# Altium footprint library SparkFun-Switches.PCBLIB: 50 footprints (part 1 of 5)
Each footprint in its own frame and in the unit in brackets; x right, y up, seen from the top. Pads: shape width x height; smd on the part's side, far side on the other; paste and mask are expansions set on the pad; w line width, h text height; cw(c..) or ccw(c..) is an arc to the next point about the centre after c.
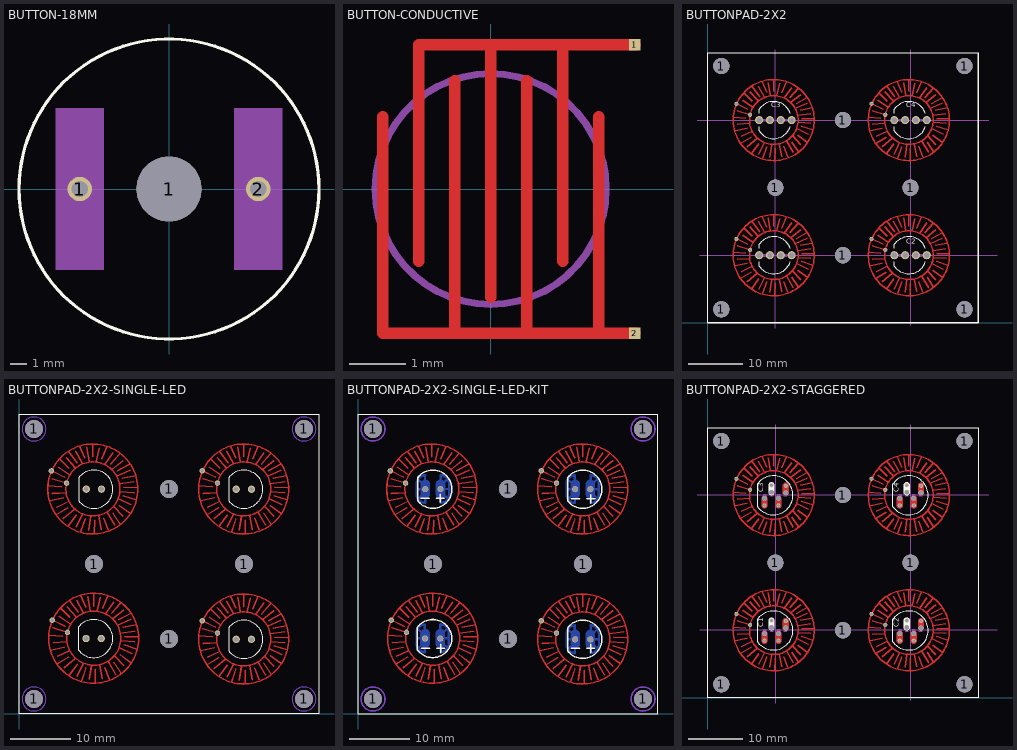
[diagram p0: the footprints below, top view; thin cyan lines are the x and y axes]

## BUTTON-18MM [mm]
pads (3):
  round 1.5 hole 1: 1(-5.5,0) 2(5.5,0)
  round 4 hole 4: 1(0,0)
Top Overlay:
  circle w0.203: c0,0 r9.25
Mechanical 11:
  rectangle: 5,-3.75 6,3.75
  rectangle: -6,-3.75 -5,3.75
Mechanical 18:
  rectangle: 4,-5 7,5
  rectangle: -7,-5 -4,5

## BUTTON-CONDUCTIVE [mil]
pads (2):
  rect 8x8 smd: 1(100,100) 2(100,-100)
Top Layer:
  lines w8: -75,50 -75,-100 100,-100 ; -50,-50 -50,100 100,100 ; -25,-100 -25,75 ; 0,-75 0,100 ; 25,-100 25,75 ; 50,-50 50,100 ; 75,-100 75,50
Top Solder:
  circle w78.74: c0,0 r39.37
Mechanical 16:
  circle w5: c0,0 r80

## BUTTONPAD-2X2 [mm]
pads (32):
  round 3 hole 3: 1(2.5,2.5) 1(2.5,47.5) 1(12.5,25) 1(25,12.5) 1(25,37.5) 1(37.5,25) 1(47.5,2.5) 1(47.5,47.5)
  round 1.5 hole 1: BLU1(13.5,12.5) BLU2(38.5,12.5) BLU3(13.5,37.5) BLU4(38.5,37.5) GND1(11.5,12.5) GND2(36.5,12.5) GND3(11.5,37.5) GND4(36.5,37.5) GRN1(15.5,12.5) GRN2(40.5,12.5) GRN3(15.5,37.5) GRN4(40.5,37.5) RED1(9.5,12.5) RED2(34.5,12.5) RED3(9.5,37.5) RED4(34.5,37.5)
  round 0.762 hole 0.508: SIG1(5.288,15.513) SIG2(7.828,13.481) SIG3(30.288,15.513) SIG4(32.828,13.481) SIG5(5.288,40.513) SIG6(7.828,38.481) SIG7(30.288,40.513) SIG8(32.828,38.481)
Top Layer:
  circle w0.254: c37.21,12.51 r4.5
  circle w0.254: c37.2,12.5 r7.5
  circle w0.254: c12.21,12.51 r4.5
  circle w0.254: c12.2,12.5 r7.5
  circle w0.254: c37.21,37.51 r4.5
  circle w0.254: c37.2,37.5 r7.5
  circle w0.254: c12.21,37.51 r4.5
  circle w0.254: c12.2,37.5 r7.5
  lines w0.254: 4.72,13.01 7.02,12.87 ; 4.72,38.01 7.02,37.87 ; 5.04,10.52 7.31,11.03 ; 5.04,35.52 7.31,36.03 ; 5.36,15.54 7.42,14.5 ; 5.36,40.54 7.42,39.5 ; 5.41,14.24 7.74,13.5 ; 5.41,39.24 7.74,38.5 ; 5.44,11.75 7.74,11.89 ; 5.44,36.75 7.74,36.89 ; 6.13,8.25 8.03,9.37 ; 6.13,33.25 8.03,34.37 ; 6.19,9.48 8.19,10.42 ; 6.19,34.48 8.19,35.42 ; 6.43,16.16 8.35,14.88 ; 6.43,41.16 8.35,39.88 ; 6.7,17.5 8.2,16 ; 6.7,42.5 8.2,41 ; 7.28,7.58 9.13,9.13 ; 7.28,32.58 9.13,34.13 ; 7.76,17.74 9.29,16.05 ; 7.76,42.74 9.29,41.05 ; 8.11,6.33 9.44,8.13 ; 8.11,31.33 9.44,33.13 ; 8.19,18.7 9.61,16.86 ; 8.19,43.7 9.61,41.86 ; 9.35,18.78 10.46,16.8 ; 9.35,43.78 10.46,41.8 ; 9.47,6.19 10.46,8.28 ; 9.47,31.19 10.46,33.28 ; 10.04,19.61 10.88,17.68 ; 10.04,44.61 10.88,42.68 ; 10.17,5.42 10.91,7.55 ; 10.17,30.42 10.91,32.55 ; 11.21,19.45 11.59,17.07 ; 11.21,44.45 11.59,42.07 ; 11.49,5.66 11.83,7.93 ; 11.49,30.66 11.83,32.93 ; 12.2,17.87 12.2,19.96 ; 12.2,42.87 12.2,44.96 ; 12.42,5.06 12.49,7.29 ; 12.42,30.06 12.49,32.29 ; 12.79,17.12 13.3,19.29 ; 12.79,42.12 13.3,44.29 ; 13.19,8.04 13.64,5.74 ; 13.19,33.04 13.64,30.74 ; 13.7,17.52 14.53,19.53 ; 13.7,42.52 14.53,44.53 ; 14.05,7.62 14.79,5.69 ; 14.05,32.62 14.79,30.69 ; 14.18,16.59 15.54,18.51 ; 14.18,41.59 15.54,43.51 ; 14.61,8.6 15.83,6.51 ; 14.61,33.6 15.83,31.51 ; 15.17,16.64 16.72,18.41 ; 15.17,41.64 16.72,43.41 ; 15.38,15.76 17.21,17.2 ; 15.38,40.76 17.21,42.2 ; 15.57,8.44 16.74,6.7 ; 15.57,33.44 16.74,31.7 ; 15.7,9.56 17.21,7.98 ; 15.7,34.56 17.21,32.98 ; 16.18,14.66 18.4,15.65 ; 16.18,39.66 18.4,40.65 ; 16.34,15.55 18.35,16.62 ; 16.34,40.55 18.35,41.62 ; 16.5,10.9 18.56,9.88 ; 16.5,35.9 18.56,34.88 ; 16.61,13.36 19.01,13.68 ; 16.61,38.36 19.01,38.68 ; 16.64,9.72 18.37,8.44 ; 16.64,34.72 18.37,33.44 ; 16.8,12.07 19.07,11.91 ; 16.8,37.07 19.07,36.91 ; 17.09,14.32 19.31,14.74 ; 17.09,39.32 19.31,39.74 ; 17.25,11.38 19.42,10.68 ; 17.25,36.38 19.42,35.68 ; 17.38,12.77 19.58,12.74 ; 17.38,37.77 19.58,37.74 ; 29.72,13.01 32.02,12.87 ; 29.72,38.01 32.02,37.87 ; 30.04,10.52 32.31,11.03 ; 30.04,35.52 32.31,36.03 ; 30.36,15.54 32.42,14.5 ; 30.36,40.54 32.42,39.5 ; 30.41,14.24 32.74,13.5 ; 30.41,39.24 32.74,38.5 ; 30.44,11.75 32.74,11.89 ; 30.44,36.75 32.74,36.89 ; 31.13,8.25 33.03,9.37 ; 31.13,33.25 33.03,34.37 ; 31.19,9.48 33.19,10.42 ; 31.19,34.48 33.19,35.42 ; 31.43,16.16 33.35,14.88 ; 31.43,41.16 33.35,39.88 ; 31.7,17.5 33.2,16 ; 31.7,42.5 33.2,41 ; 32.28,7.58 34.13,9.13 ; 32.28,32.58 34.13,34.13 ; 32.76,17.74 34.29,16.05 ; 32.76,42.74 34.29,41.05 ; 33.11,6.33 34.44,8.13 ; 33.11,31.33 34.44,33.13 ; 33.19,18.7 34.61,16.86 ; 33.19,43.7 34.61,41.86 ; 34.35,18.78 35.46,16.8 ; 34.35,43.78 35.46,41.8 ; 34.47,6.19 35.46,8.28 ; 34.47,31.19 35.46,33.28 ; 35.04,19.61 35.88,17.68 ; 35.04,44.61 35.88,42.68 ; 35.17,5.42 35.91,7.55 ; 35.17,30.42 35.91,32.55 ; 36.21,19.45 36.59,17.07 ; 36.21,44.45 36.59,42.07 ; 36.49,5.66 36.83,7.93 ; 36.49,30.66 36.83,32.93 ; 37.2,17.87 37.2,19.96 ; 37.2,42.87 37.2,44.96 ; 37.42,5.06 37.49,7.29 ; 37.42,30.06 37.49,32.29 ; 37.79,17.12 38.3,19.29 ; 37.79,42.12 38.3,44.29 ; 38.19,8.04 38.64,5.74 ; 38.19,33.04 38.64,30.74 ; 38.7,17.52 39.53,19.53 ; 38.7,42.52 39.53,44.53 ; 39.05,7.62 39.79,5.69 ; 39.05,32.62 39.79,30.69 ; 39.18,16.59 40.54,18.51 ; 39.18,41.59 40.54,43.51 ; 39.61,8.6 40.83,6.51 ; 39.61,33.6 40.83,31.51 ; 40.17,16.64 41.72,18.41 ; 40.17,41.64 41.72,43.41 ; 40.38,15.76 42.21,17.2 ; 40.38,40.76 42.21,42.2 ; 40.57,8.44 41.74,6.7 ; 40.57,33.44 41.74,31.7 ; 40.7,9.56 42.21,7.98 ; 40.7,34.56 42.21,32.98 ; 41.18,14.66 43.4,15.65 ; 41.18,39.66 43.4,40.65 ; 41.34,15.55 43.35,16.62 ; 41.34,40.55 43.35,41.62 ; 41.5,10.9 43.56,9.88 ; 41.5,35.9 43.56,34.88 ; 41.61,13.36 44.01,13.68 ; 41.61,38.36 44.01,38.68 ; 41.64,9.72 43.37,8.44 ; 41.64,34.72 43.37,33.44 ; 41.8,12.07 44.07,11.91 ; 41.8,37.07 44.07,36.91 ; 42.09,14.32 44.31,14.74 ; 42.09,39.32 44.31,39.74 ; 42.25,11.38 44.42,10.68 ; 42.25,36.38 44.42,35.68 ; 42.38,12.77 44.58,12.74 ; 42.38,37.77 44.58,37.74
Top Overlay:
  lines w0.203: 0,0 0,50 50,50 ; 9.5,11.25 9.5,10.5 ccw(c12.188,12.312) 15.25,11.25 ; 9.5,13.75 9.5,14.5 cw(c12.187,12.688) 15.25,13.75 ; 9.5,36.25 9.5,35.5 ccw(c12.187,37.313) 15.25,36.25 ; 9.5,38.75 9.5,39.5 cw(c12.187,37.688) 15.25,38.75 ; 34.5,11.25 34.5,10.5 ccw(c37.188,12.313) 40.25,11.25 ; 34.5,13.75 34.5,14.5 cw(c37.188,12.688) 40.25,13.75 ; 34.5,36.25 34.5,35.5 ccw(c37.188,37.313) 40.25,36.25 ; 34.5,38.75 34.5,39.5 cw(c37.188,37.688) 40.25,38.75
  lines w0.254: 0,0 50,0 50,50
  text "C2" at 36.75,14.25 h1.57
  text "C4" at 36.75,39.5 h1.57
  text "C3" at 11.75,39.5 h1.57
Top Solder:
  drawing of 168 lines, arcs and shapes, not listed
Mechanical 16:
  rectangle: 39.014,12.174 39.675,12.708
  rectangle: 35.255,12.174 35.916,12.708
  rectangle: 36.507,12.174 37.168,12.708
  rectangle: 37.762,12.174 38.423,12.708
  rectangle: 13.995,12.174 14.656,12.708
  rectangle: 10.236,12.174 10.897,12.708
  rectangle: 11.488,12.174 12.149,12.708
  rectangle: 12.743,12.174 13.404,12.708
  rectangle: 39.014,37.193 39.675,37.727
  rectangle: 35.255,37.193 35.916,37.727
  rectangle: 36.507,37.193 37.168,37.727
  rectangle: 37.762,37.193 38.423,37.727
  rectangle: 13.995,37.193 14.656,37.727
  rectangle: 10.236,37.193 10.897,37.727
  rectangle: 11.488,37.193 12.149,37.727
  rectangle: 12.743,37.193 13.404,37.727
  lines w0.127: -2,37.5 52,37.5 ; -1.5,12.5 53.5,12.5 ; 12.5,-1 12.5,50.5 ; 37.5,-0.5 37.5,50.5

## BUTTONPAD-2X2-SINGLE-LED [mil]
pads (24):
  round 118.11 hole 118.11: 1(98.43,98.43) 1(98.43,1870.08) 1(492.13,984.25) 1(984.25,492.13) 1(984.25,1476.38) 1(1476.38,984.25) 1(1870.08,98.43) 1(1870.08,1870.08)
  round 48 hole 32: A1(540,495) A2(1525,490) A3(541.34,1475.2) A4(1525,1475) K1(440,495) K2(1425,490) K3(441.34,1475.2) K4(1425,1475)
  round 35.43 hole 23.62: SIG1(218.19,615.75) SIG2(318.19,535.75) SIG3(1202.44,610.75) SIG4(1302.44,530.75) SIG5(212.13,1595) SIG6(312.13,1515) SIG7(1202.44,1595) SIG8(1302.44,1515)
Top Layer:
  circle w10: c484.25,1476.38 r295.28
  circle w10: c484.65,1476.77 r177.17
  circle w10: c1474.57,1476.38 r295.28
  circle w10: c1474.96,1476.77 r177.17
  circle w10: c490.32,497.13 r295.28
  circle w10: c490.71,497.52 r177.17
  circle w10: c1474.57,492.13 r295.28
  circle w10: c1474.96,492.52 r177.17
  lines w10: 189.76,1496.46 280.32,1490.94 ; 195.83,517.2 286.38,511.69 ; 202.36,1398.43 291.73,1418.5 ; 208.43,419.17 297.8,439.25 ; 214.96,1596.06 296.06,1555.12 ; 216.93,1544.88 308.66,1515.75 ; 218.11,1446.85 308.66,1452.36 ; 221.02,616.81 302.13,575.87 ; 222.99,565.63 314.72,536.5 ; 224.17,467.6 314.72,473.11 ; 245.28,1309.06 320.08,1353.15 ; 247.64,1357.48 326.38,1394.49 ; 251.34,329.8 326.14,373.9 ; 253.7,378.23 332.44,415.24 ; 257.09,1620.47 332.68,1570.08 ; 263.15,641.22 338.74,590.83 ; 267.72,1673.23 326.77,1614.17 ; 273.78,693.98 332.83,634.92 ; 290.55,1282.68 363.39,1343.7 ; 296.61,303.43 369.45,364.45 ; 309.45,1682.68 369.69,1616.14 ; 315.51,703.43 375.75,636.89 ; 323.23,1233.46 375.59,1304.33 ; 326.38,1720.47 382.28,1648.03 ; 329.29,254.21 381.65,325.08 ; 332.44,741.22 388.35,668.78 ; 372.05,1723.62 415.75,1645.67 ; 376.77,1227.95 415.75,1310.24 ; 378.11,744.37 421.81,666.42 ; 382.83,248.7 421.81,330.98 ; 399.21,1756.3 432.28,1680.32 ; 404.33,1197.64 433.46,1281.5 ; 405.28,777.05 438.35,701.06 ; 410.39,218.39 439.53,302.24 ; 445.28,1750 460.24,1656.3 ; 451.34,770.75 466.3,677.05 ; 456.3,1207.09 469.69,1296.46 ; 462.36,227.83 475.75,317.2 ; 484.25,1687.8 484.25,1770.08 ; 490.32,708.54 490.32,790.83 ; 492.91,1183.46 495.67,1271.26 ; 498.98,204.21 501.73,292.01 ; 507.48,1658.27 527.56,1743.7 ; 513.54,679.02 533.62,764.45 ; 523.23,1300.79 540.94,1210.24 ; 529.29,321.54 547.01,230.98 ; 543.31,1674.02 575.98,1753.15 ; 549.37,694.76 582.05,773.9 ; 557.09,1284.25 586.22,1208.27 ; 562.2,1637.4 615.75,1712.99 ; 563.15,305 592.28,229.02 ; 568.27,658.15 621.81,733.74 ; 579.13,1322.83 627.17,1240.55 ; 585.2,343.58 633.23,261.3 ; 601.18,1639.37 662.2,1709.06 ; 607.24,660.12 668.27,729.8 ; 609.45,1604.72 681.5,1661.42 ; 615.51,625.47 687.56,682.17 ; 616.93,1316.54 662.99,1248.03 ; 622.05,1360.63 681.5,1298.43 ; 622.99,337.28 669.06,268.78 ; 628.11,381.38 687.56,319.17 ; 640.94,1561.42 728.35,1600.39 ; 647.01,582.17 734.41,621.14 ; 647.24,1596.46 726.38,1638.58 ; 653.31,617.2 732.44,659.33 ; 653.54,1413.39 734.65,1373.23 ; 657.87,1510.24 752.36,1522.83 ; 659.06,1366.93 727.17,1316.54 ; 659.61,434.13 740.71,393.98 ; 663.94,530.98 758.43,543.58 ; 665.12,387.68 733.23,337.28 ; 665.35,1459.45 754.72,1453.15 ; 671.42,480.2 760.79,473.9 ; 676.77,1548.03 764.17,1564.57 ; 682.83,568.78 770.24,585.32 ; 683.07,1432.28 768.5,1404.72 ; 688.19,1487.01 774.8,1485.83 ; 689.13,453.03 774.57,425.47 ; 694.25,507.76 780.87,506.57 ; 1180.08,512.2 1270.63,506.69 ; 1180.08,1496.46 1270.63,1490.94 ; 1192.68,414.17 1282.05,434.25 ; 1192.68,1398.43 1282.05,1418.5 ; 1205.28,611.81 1286.38,570.87 ; 1205.28,1596.06 1286.38,1555.12 ; 1207.24,560.63 1298.98,531.5 ; 1207.24,1544.88 1298.98,1515.75 ; 1208.43,462.6 1298.98,468.11 ; 1208.43,1446.85 1298.98,1452.36 ; 1235.59,324.8 1310.39,368.9 ; 1235.59,1309.06 1310.39,1353.15 ; 1237.95,373.23 1316.69,410.24 ; 1237.95,1357.48 1316.69,1394.49 ; 1247.4,636.22 1322.99,585.83 ; 1247.4,1620.47 1322.99,1570.08 ; 1258.03,688.98 1317.09,629.92 ; 1258.03,1673.23 1317.09,1614.17 ; 1280.87,298.43 1353.7,359.45 ; 1280.87,1282.68 1353.7,1343.7 ; 1299.76,698.43 1360,631.89 ; 1299.76,1682.68 1360,1616.14 ; 1313.54,249.21 1365.91,320.08 ; 1313.54,1233.46 1365.91,1304.33 ; 1316.69,736.22 1372.6,663.78 ; 1316.69,1720.47 1372.6,1648.03 ; 1362.36,739.37 1406.06,661.42 ; 1362.36,1723.62 1406.06,1645.67 ; 1367.09,243.7 1406.06,325.98 ; 1367.09,1227.95 1406.06,1310.24 ; 1389.53,772.05 1422.6,696.06 ; 1389.53,1756.3 1422.6,1680.32 ; 1394.65,213.39 1423.78,297.24 ; 1394.65,1197.64 1423.78,1281.5 ; 1435.59,765.75 1450.55,672.05 ; 1435.59,1750 1450.55,1656.3 ; 1446.61,222.83 1460,312.2 ; 1446.61,1207.09 1460,1296.46 ; 1474.57,703.54 1474.57,785.83 ; 1474.57,1687.8 1474.57,1770.08 ; 1483.23,199.21 1485.98,287.01 ; 1483.23,1183.46 1485.98,1271.26 ; 1497.8,674.02 1517.87,759.45 ; 1497.8,1658.27 1517.87,1743.7 ; 1513.54,316.54 1531.26,225.98 ; 1513.54,1300.79 1531.26,1210.24 ; 1533.62,689.76 1566.3,768.9 ; 1533.62,1674.02 1566.3,1753.15 ; 1547.4,300 1576.54,224.02 ; 1547.4,1284.25 1576.54,1208.27 ; 1552.52,653.15 1606.06,728.74 ; 1552.52,1637.4 1606.06,1712.99 ; 1569.45,338.58 1617.48,256.3 ; 1569.45,1322.83 1617.48,1240.55 ; 1591.5,655.12 1652.52,724.8 ; 1591.5,1639.37 1652.52,1709.06 ; 1599.76,620.47 1671.81,677.17 ; 1599.76,1604.72 1671.81,1661.42 ; 1607.24,332.28 1653.31,263.78 ; 1607.24,1316.54 1653.31,1248.03 ; 1612.36,376.38 1671.81,314.17 ; 1612.36,1360.63 1671.81,1298.43 ; 1631.26,577.17 1718.66,616.14 ; 1631.26,1561.42 1718.66,1600.39 ; 1637.56,612.2 1716.69,654.33 ; 1637.56,1596.46 1716.69,1638.58 ; 1643.86,429.13 1724.96,388.98 ; 1643.86,1413.39 1724.96,1373.23 ; 1648.19,525.98 1742.68,538.58 ; 1648.19,1510.24 1742.68,1522.83 ; 1649.37,382.68 1717.48,332.28 ; 1649.37,1366.93 1717.48,1316.54 ; 1655.67,475.2 1745.04,468.9 ; 1655.67,1459.45 1745.04,1453.15 ; 1667.09,563.78 1754.49,580.32 ; 1667.09,1548.03 1754.49,1564.57 ; 1673.39,448.03 1758.82,420.47 ; 1673.39,1432.28 1758.82,1404.72 ; 1678.5,502.76 1765.12,501.57 ; 1678.5,1487.01 1765.12,1485.83
Top Layer keep-out:
  circle w5: c1870.08,1870.08 r78.74
  circle w5: c98.43,1870.08 r78.74
  circle w5: c98.43,98.43 r78.74
  circle w5: c1870.08,98.43 r78.74
Bottom Layer keep-out:
  circle w5: c98.43,1870.08 r78.74
  circle w5: c1870.08,1870.08 r78.74
  circle w5: c1870.08,98.43 r78.74
  circle w5: c98.43,98.43 r78.74
Top Overlay:
  lines w8: 0,0 0,1968.5 1968.5,1968.5 1968.5,0 0,0 ; 390,420 390,570 cw(c490,495) 390,420 ; 391.34,1400.2 391.34,1550.2 cw(c491.34,1475.2) 391.34,1400.2 ; 1375,415 1375,565 cw(c1475,490) 1375,415 ; 1375,1400 1375,1550 cw(c1475,1475) 1375,1400
Top Solder:
  drawing of 168 lines, arcs and shapes, not listed
Mechanical 16:
  text "D3" at 460,1535 h62
  text "D4" at 1440,1535 h62
  text "D1" at 460,555 h62
  text "D2" at 1445,545 h62

## BUTTONPAD-2X2-SINGLE-LED-KIT [mil]
pads (24):
  round 118.11 hole 118.11: 1(98.43,98.43) 1(98.43,1870.08) 1(492.13,984.25) 1(984.25,492.13) 1(984.25,1476.38) 1(1476.38,984.25) 1(1870.08,98.43) 1(1870.08,1870.08)
  round 40 hole 35: A1(540,495) A2(1525,490) A3(541.34,1475.2) A4(1525,1475) K1(440,495) K2(1425,490) K3(441.34,1475.2) K4(1425,1475)
  round 35.43 hole 23.62: SIG1(218.19,615.75) SIG2(318.19,535.75) SIG3(1202.44,610.75) SIG4(1302.44,530.75) SIG5(212.13,1595) SIG6(312.13,1515) SIG7(1202.44,1595) SIG8(1302.44,1515)
Top Layer:
  circle w10: c1474.96,492.52 r177.17
  circle w10: c1474.57,492.13 r295.28
  circle w10: c490.71,497.52 r177.17
  circle w10: c490.32,497.13 r295.28
  circle w10: c1474.96,1476.77 r177.17
  circle w10: c1474.57,1476.38 r295.28
  circle w10: c484.65,1476.77 r177.17
  circle w10: c484.25,1476.38 r295.28
  lines w10: 189.76,1496.46 280.32,1490.94 ; 195.83,517.2 286.38,511.69 ; 202.36,1398.43 291.73,1418.5 ; 208.43,419.17 297.8,439.25 ; 214.96,1596.06 296.06,1555.12 ; 216.93,1544.88 308.66,1515.75 ; 218.11,1446.85 308.66,1452.36 ; 221.02,616.81 302.13,575.87 ; 222.99,565.63 314.72,536.5 ; 224.17,467.6 314.72,473.11 ; 245.28,1309.06 320.08,1353.15 ; 247.64,1357.48 326.38,1394.49 ; 251.34,329.8 326.14,373.9 ; 253.7,378.23 332.44,415.24 ; 257.09,1620.47 332.68,1570.08 ; 263.15,641.22 338.74,590.83 ; 267.72,1673.23 326.77,1614.17 ; 273.78,693.98 332.83,634.92 ; 290.55,1282.68 363.39,1343.7 ; 296.61,303.43 369.45,364.45 ; 309.45,1682.68 369.69,1616.14 ; 315.51,703.43 375.75,636.89 ; 323.23,1233.46 375.59,1304.33 ; 326.38,1720.47 382.28,1648.03 ; 329.29,254.21 381.65,325.08 ; 332.44,741.22 388.35,668.78 ; 372.05,1723.62 415.75,1645.67 ; 376.77,1227.95 415.75,1310.24 ; 378.11,744.37 421.81,666.42 ; 382.83,248.7 421.81,330.98 ; 399.21,1756.3 432.28,1680.32 ; 404.33,1197.64 433.46,1281.5 ; 405.28,777.05 438.35,701.06 ; 410.39,218.39 439.53,302.24 ; 445.28,1750 460.24,1656.3 ; 451.34,770.75 466.3,677.05 ; 456.3,1207.09 469.69,1296.46 ; 462.36,227.83 475.75,317.2 ; 484.25,1687.8 484.25,1770.08 ; 490.32,708.54 490.32,790.83 ; 492.91,1183.46 495.67,1271.26 ; 498.98,204.21 501.73,292.01 ; 507.48,1658.27 527.56,1743.7 ; 513.54,679.02 533.62,764.45 ; 523.23,1300.79 540.94,1210.24 ; 529.29,321.54 547.01,230.98 ; 543.31,1674.02 575.98,1753.15 ; 549.37,694.76 582.05,773.9 ; 557.09,1284.25 586.22,1208.27 ; 562.2,1637.4 615.75,1712.99 ; 563.15,305 592.28,229.02 ; 568.27,658.15 621.81,733.74 ; 579.13,1322.83 627.17,1240.55 ; 585.2,343.58 633.23,261.3 ; 601.18,1639.37 662.2,1709.06 ; 607.24,660.12 668.27,729.8 ; 609.45,1604.72 681.5,1661.42 ; 615.51,625.47 687.56,682.17 ; 616.93,1316.54 662.99,1248.03 ; 622.05,1360.63 681.5,1298.43 ; 622.99,337.28 669.06,268.78 ; 628.11,381.38 687.56,319.17 ; 640.94,1561.42 728.35,1600.39 ; 647.01,582.17 734.41,621.14 ; 647.24,1596.46 726.38,1638.58 ; 653.31,617.2 732.44,659.33 ; 653.54,1413.39 734.65,1373.23 ; 657.87,1510.24 752.36,1522.83 ; 659.06,1366.93 727.17,1316.54 ; 659.61,434.13 740.71,393.98 ; 663.94,530.98 758.43,543.58 ; 665.12,387.68 733.23,337.28 ; 665.35,1459.45 754.72,1453.15 ; 671.42,480.2 760.79,473.9 ; 676.77,1548.03 764.17,1564.57 ; 682.83,568.78 770.24,585.32 ; 683.07,1432.28 768.5,1404.72 ; 688.19,1487.01 774.8,1485.83 ; 689.13,453.03 774.57,425.47 ; 694.25,507.76 780.87,506.57 ; 1180.08,512.2 1270.63,506.69 ; 1180.08,1496.46 1270.63,1490.94 ; 1192.68,414.17 1282.05,434.25 ; 1192.68,1398.43 1282.05,1418.5 ; 1205.28,611.81 1286.38,570.87 ; 1205.28,1596.06 1286.38,1555.12 ; 1207.24,560.63 1298.98,531.5 ; 1207.24,1544.88 1298.98,1515.75 ; 1208.43,462.6 1298.98,468.11 ; 1208.43,1446.85 1298.98,1452.36 ; 1235.59,324.8 1310.39,368.9 ; 1235.59,1309.06 1310.39,1353.15 ; 1237.95,373.23 1316.69,410.24 ; 1237.95,1357.48 1316.69,1394.49 ; 1247.4,636.22 1322.99,585.83 ; 1247.4,1620.47 1322.99,1570.08 ; 1258.03,688.98 1317.09,629.92 ; 1258.03,1673.23 1317.09,1614.17 ; 1280.87,298.43 1353.7,359.45 ; 1280.87,1282.68 1353.7,1343.7 ; 1299.76,698.43 1360,631.89 ; 1299.76,1682.68 1360,1616.14 ; 1313.54,249.21 1365.91,320.08 ; 1313.54,1233.46 1365.91,1304.33 ; 1316.69,736.22 1372.6,663.78 ; 1316.69,1720.47 1372.6,1648.03 ; 1362.36,739.37 1406.06,661.42 ; 1362.36,1723.62 1406.06,1645.67 ; 1367.09,243.7 1406.06,325.98 ; 1367.09,1227.95 1406.06,1310.24 ; 1389.53,772.05 1422.6,696.06 ; 1389.53,1756.3 1422.6,1680.32 ; 1394.65,213.39 1423.78,297.24 ; 1394.65,1197.64 1423.78,1281.5 ; 1435.59,765.75 1450.55,672.05 ; 1435.59,1750 1450.55,1656.3 ; 1446.61,222.83 1460,312.2 ; 1446.61,1207.09 1460,1296.46 ; 1474.57,703.54 1474.57,785.83 ; 1474.57,1687.8 1474.57,1770.08 ; 1483.23,199.21 1485.98,287.01 ; 1483.23,1183.46 1485.98,1271.26 ; 1497.8,674.02 1517.87,759.45 ; 1497.8,1658.27 1517.87,1743.7 ; 1513.54,316.54 1531.26,225.98 ; 1513.54,1300.79 1531.26,1210.24 ; 1533.62,689.76 1566.3,768.9 ; 1533.62,1674.02 1566.3,1753.15 ; 1547.4,300 1576.54,224.02 ; 1547.4,1284.25 1576.54,1208.27 ; 1552.52,653.15 1606.06,728.74 ; 1552.52,1637.4 1606.06,1712.99 ; 1569.45,338.58 1617.48,256.3 ; 1569.45,1322.83 1617.48,1240.55 ; 1591.5,655.12 1652.52,724.8 ; 1591.5,1639.37 1652.52,1709.06 ; 1599.76,620.47 1671.81,677.17 ; 1599.76,1604.72 1671.81,1661.42 ; 1607.24,332.28 1653.31,263.78 ; 1607.24,1316.54 1653.31,1248.03 ; 1612.36,376.38 1671.81,314.17 ; 1612.36,1360.63 1671.81,1298.43 ; 1631.26,577.17 1718.66,616.14 ; 1631.26,1561.42 1718.66,1600.39 ; 1637.56,612.2 1716.69,654.33 ; 1637.56,1596.46 1716.69,1638.58 ; 1643.86,429.13 1724.96,388.98 ; 1643.86,1413.39 1724.96,1373.23 ; 1648.19,525.98 1742.68,538.58 ; 1648.19,1510.24 1742.68,1522.83 ; 1649.37,382.68 1717.48,332.28 ; 1649.37,1366.93 1717.48,1316.54 ; 1655.67,475.2 1745.04,468.9 ; 1655.67,1459.45 1745.04,1453.15 ; 1667.09,563.78 1754.49,580.32 ; 1667.09,1548.03 1754.49,1564.57 ; 1673.39,448.03 1758.82,420.47 ; 1673.39,1432.28 1758.82,1404.72 ; 1678.5,502.76 1765.12,501.57 ; 1678.5,1487.01 1765.12,1485.83
Top Layer keep-out:
  circle w10: c1870.08,98.43 r78.74
  circle w10: c98.43,98.43 r78.74
  circle w10: c98.43,1870.08 r78.74
  circle w10: c1870.08,1870.08 r78.74
Bottom Layer:
  region: 1555,523.8 1554.9,526.71 1553.58,532.37 1551.17,537.66 1547.78,542.38 1543.53,546.35 1538.59,549.42 1533.14,551.46 1527.41,552.4 1524.5,552.3 1521.56,552.27 1515.81,551.05 1510.4,548.74 1505.55,545.41 1501.44,541.21 1498.23,536.28 1496.04,530.82 1494.97,525.04 1495,522.1 1495,456.5 1495.05,453.62 1496.28,447.99 1498.59,442.71 1501.88,437.97 1506.03,433.98 1510.88,430.87 1516.25,428.76 1521.92,427.75 1524.8,427.8 1527.68,427.73 1533.36,428.7 1538.74,430.77 1543.62,433.85 1547.8,437.82 1551.12,442.53 1553.47,447.8 1554.74,453.42 1554.81,456.3
  region: 1455,523.8 1454.9,526.71 1453.58,532.37 1451.17,537.66 1447.78,542.38 1443.53,546.35 1438.59,549.42 1433.14,551.46 1427.41,552.4 1424.5,552.3 1421.56,552.27 1415.81,551.05 1410.4,548.74 1405.55,545.41 1401.44,541.21 1398.23,536.28 1396.04,530.82 1394.97,525.04 1395,522.1 1395,456.5 1395.05,453.62 1396.28,447.99 1398.59,442.71 1401.88,437.97 1406.03,433.98 1410.88,430.87 1416.25,428.76 1421.92,427.75 1424.8,427.8 1427.68,427.73 1433.36,428.7 1438.74,430.77 1443.62,433.85 1447.8,437.82 1451.12,442.53 1453.47,447.8 1454.74,453.42 1454.81,456.3
  region: 570.1,529.1 570,532.01 568.67,537.67 566.27,542.96 562.88,547.68 558.63,551.65 553.69,554.72 548.24,556.76 542.51,557.7 539.6,557.6 536.66,557.57 530.91,556.35 525.5,554.04 520.65,550.71 516.54,546.51 513.33,541.58 511.14,536.12 510.07,530.34 510.1,527.4 510.1,461.8 510.15,458.92 511.38,453.29 513.69,448.01 516.98,443.27 521.13,439.28 525.98,436.17 531.35,434.06 537.02,433.05 539.9,433.1 542.78,433.03 548.46,434 553.84,436.07 558.72,439.15 562.9,443.12 566.22,447.83 568.57,453.1 569.84,458.72 569.91,461.6
  region: 470.1,529.1 470,532.01 468.68,537.67 466.27,542.96 462.88,547.68 458.63,551.65 453.69,554.72 448.24,556.76 442.51,557.7 439.6,557.6 436.66,557.57 430.91,556.35 425.5,554.04 420.65,550.71 416.54,546.51 413.33,541.58 411.14,536.12 410.07,530.34 410.1,527.4 410.1,461.8 410.15,458.92 411.38,453.29 413.69,448.01 416.98,443.27 421.13,439.28 425.98,436.17 431.35,434.06 437.02,433.05 439.9,433.1 442.78,433.03 448.46,434 453.84,436.07 458.72,439.15 462.9,443.12 466.22,447.83 468.57,453.1 469.84,458.72 469.91,461.6
  region: 1554.9,1508.7 1554.8,1511.61 1553.47,1517.27 1551.07,1522.56 1547.68,1527.28 1543.43,1531.25 1538.49,1534.32 1533.04,1536.36 1527.31,1537.3 1524.4,1537.2 1521.46,1537.17 1515.71,1535.95 1510.3,1533.64 1505.45,1530.31 1501.34,1526.11 1498.13,1521.18 1495.94,1515.72 1494.87,1509.94 1494.9,1507 1494.9,1441.4 1494.95,1438.52 1496.18,1432.89 1498.49,1427.61 1501.78,1422.87 1505.93,1418.88 1510.78,1415.77 1516.15,1413.66 1521.82,1412.64 1524.7,1412.7 1527.58,1412.63 1533.26,1413.61 1538.64,1415.67 1543.51,1418.75 1547.69,1422.72 1551.02,1427.43 1553.36,1432.7 1554.63,1438.32 1554.7,1441.2
  region: 1454.9,1508.7 1454.8,1511.61 1453.47,1517.27 1451.07,1522.56 1447.68,1527.28 1443.43,1531.25 1438.49,1534.32 1433.04,1536.36 1427.31,1537.3 1424.4,1537.2 1421.46,1537.17 1415.71,1535.95 1410.3,1533.64 1405.45,1530.31 1401.34,1526.11 1398.13,1521.18 1395.94,1515.72 1394.87,1509.94 1394.9,1507 1394.9,1441.4 1394.95,1438.52 1396.18,1432.89 1398.49,1427.61 1401.78,1422.87 1405.93,1418.88 1410.78,1415.77 1416.15,1413.66 1421.82,1412.64 1424.7,1412.7 1427.58,1412.63 1433.26,1413.61 1438.64,1415.67 1443.51,1418.75 1447.69,1422.72 1451.02,1427.43 1453.36,1432.7 1454.63,1438.32 1454.7,1441.2
  region: 571.3,1509 571.2,1511.91 569.88,1517.57 567.47,1522.86 564.08,1527.58 559.83,1531.55 554.89,1534.62 549.44,1536.66 543.71,1537.6 540.8,1537.5 537.86,1537.47 532.11,1536.25 526.7,1533.94 521.85,1530.61 517.74,1526.41 514.53,1521.48 512.34,1516.02 511.27,1510.24 511.3,1507.3 511.3,1441.7 511.35,1438.82 512.58,1433.19 514.89,1427.91 518.18,1423.17 522.33,1419.18 527.18,1416.07 532.55,1413.96 538.22,1412.94 541.1,1413 543.98,1412.93 549.66,1413.9 555.04,1415.97 559.92,1419.05 564.1,1423.02 567.42,1427.73 569.77,1433 571.04,1438.62 571.11,1441.5
  region: 471.3,1509 471.2,1511.91 469.88,1517.57 467.47,1522.86 464.08,1527.58 459.83,1531.55 454.89,1534.62 449.44,1536.66 443.71,1537.6 440.8,1537.5 437.86,1537.47 432.11,1536.25 426.7,1533.94 421.85,1530.61 417.74,1526.41 414.53,1521.48 412.34,1516.02 411.27,1510.24 411.3,1507.3 411.3,1441.7 411.35,1438.82 412.58,1433.19 414.89,1427.91 418.18,1423.17 422.33,1419.18 427.18,1416.07 432.55,1413.96 438.22,1412.94 441.1,1413 443.98,1412.93 449.66,1413.9 455.04,1415.97 459.92,1419.05 464.1,1423.02 467.42,1427.73 469.77,1433 471.04,1438.62 471.11,1441.5
  lines w16: 386,496.2 414.7,496.2 ; 387.2,1476.1 415.9,1476.1 ; 392.9,555.6 414.2,540.7 ; 393.5,431.2 414.7,451.2 ; 394.1,1535.5 415.4,1520.6 ; 394.7,1411.1 415.9,1431.1 ; 437.7,405 cw(c440.25,461.45) 383.8,464 383.8,533.8 cw(c437.56,532.63) 438.8,586.39 ; 438.5,586.5 439,405.6 ; 438.9,1384.9 cw(c441.45,1441.35) 385,1443.9 385,1513.7 cw(c438.76,1512.54) 440,1566.3 ; 439.7,1566.4 440.2,1385.5 ; 541.1,587.1 541.6,406.2 ; 541.3,406.3 ccw(c542.55,460.05) 596.3,458.89 596.3,528.7 ccw(c539.86,531.26) 542.4,587.7 ; 542.3,1567 542.8,1386.1 ; 542.5,1386.2 ccw(c543.74,1439.96) 597.5,1438.8 597.5,1508.6 ccw(c541.06,1511.16) 543.6,1567.6 ; 565.4,496.5 594.1,496.5 ; 565.4,541.5 586.6,561.5 ; 565.9,452 587.2,437.1 ; 566.6,1476.4 595.3,1476.4 ; 566.6,1521.4 587.8,1541.4 ; 567.1,1431.9 588.4,1417 ; 1370.8,1475.8 1399.5,1475.8 ; 1370.9,490.9 1399.6,490.9 ; 1377.7,1535.2 1399,1520.3 ; 1377.8,550.3 1399.1,535.4 ; 1378.3,1410.8 1399.5,1430.8 ; 1378.4,425.9 1399.6,445.9 ; 1422.5,1384.6 cw(c1425.05,1441.05) 1368.6,1443.6 1368.6,1513.41 cw(c1422.36,1512.24) 1423.6,1566 ; 1422.6,399.7 cw(c1425.15,456.15) 1368.7,458.7 1368.7,528.5 cw(c1422.46,527.33) 1423.7,581.09 ; 1423.3,1566.1 1423.8,1385.2 ; 1423.4,581.2 1423.9,400.3 ; 1525.9,1566.7 1526.4,1385.8 ; 1526,581.8 1526.5,400.9 ; 1526.1,1385.91 ccw(c1527.35,1439.66) 1581.1,1438.5 1581.1,1508.3 ccw(c1524.66,1510.86) 1527.2,1567.3 ; 1526.2,401 ccw(c1527.45,454.75) 1581.2,453.59 1581.2,523.4 ccw(c1524.76,525.96) 1527.3,582.4 ; 1550.2,1476.1 1578.9,1476.1 ; 1550.2,1521.1 1571.4,1541.1 ; 1550.3,491.2 1579,491.2 ; 1550.3,536.2 1571.5,556.2 ; 1550.7,1431.6 1572,1416.7 ; 1550.8,446.7 1572.1,431.8
Bottom Layer keep-out:
  circle w10: c98.43,98.43 r78.74
  circle w10: c1870.08,98.43 r78.74
  circle w10: c1870.08,1870.08 r78.74
  circle w10: c98.43,1870.08 r78.74
Top Overlay:
  lines w8: 390,420 390,570 ; 390.14,420.3 ccw(c490.14,495.3) 390.14,570.3 ; 0,0 1968.5,0 1968.5,1968.5 0,1968.5 0,0
  lines w10: 390,420 ccw(c490,495) 390,570 ; 390.14,420.3 390.14,570.3 ; 412.8,1415.8 467.4,1415.8 ; 415.4,430.8 470,430.8 ; 512.8,1415.8 567.4,1415.8 ; 515.4,430.8 570,430.8 ; 539.8,1387.9 539.8,1442.5 ; 542.4,402.9 542.4,457.5 ; 1400.1,430.6 1454.7,430.6 ; 1400.8,1411.6 1455.4,1411.6 ; 1500.1,430.6 1554.7,430.6 ; 1500.8,1411.6 1555.4,1411.6 ; 1527.1,402.7 1527.1,457.3 ; 1527.8,1383.7 1527.8,1438.3 ; 391.34,1400.2 ccw(c491.34,1475.2) 391.34,1550.2 391.34,1400.2 ; 1374.84,1399.7 ccw(c1474.84,1474.7) 1374.84,1549.7 1374.84,1399.7 ; 1375,415 ccw(c1475,490) 1375,565 1375,415 ; 1375,1400 ccw(c1475,1475) 1375,1550 1375,1400 ; 1375.04,415.1 ccw(c1475.04,490.1) 1375.04,565.1 1375.04,415.1
Top Solder:
  drawing of 176 lines, arcs and shapes, not listed
Bottom Solder:
  drawing of 8 lines, arcs and shapes, not listed
Mechanical 16:
  text "D2" at 1445,545 h62
  text "D1" at 460,555 h62
  text "D4" at 1440,1535 h62
  text "D3" at 460,1535 h62

## BUTTONPAD-2X2-STAGGERED [mil]
pads (48):
  round 118.11 hole 118.11: 1(98.43,98.43) 1(98.43,1870.08) 1(492.13,984.25) 1(984.25,492.13) 1(984.25,1476.38) 1(1476.38,984.25) 1(1870.08,98.43) 1(1870.08,1870.08)
  round 36 hole 36: 1(413,467) 1(413,1452) 1(464,512) 1(464,1497) 1(515,467) 1(515,1452) 1(568,508) 1(568,1493) 1(1398,467) 1(1398,1452) 1(1449,512) 1(1449,1497) 1(1500,467) 1(1500,1452) 1(1553,508) 1(1553,1493)
  round 30 hole 20: BLU1(515,416) BLU2(1500,416) BLU3(515,1401) BLU4(1500,1401) GND1(464,563) GND2(1449,563) GND3(464,1548) GND4(1449,1548) GRN1(568,559) GRN2(1553,559) GRN3(568,1544) GRN4(1553,1544) RED1(413,416) RED2(1398,416) RED3(413,1401) RED4(1398,1401) SIG1(208.19,610.75) SIG2(308.19,530.75) SIG3(1192.44,610.75) SIG4(1292.44,530.75) SIG5(208.19,1595) SIG6(308.19,1515) SIG7(1192.44,1595) SIG8(1292.44,1515)
Top Layer:
  circle w10: c480.32,1476.38 r295.28
  circle w10: c480.71,1476.77 r177.17
  circle w10: c1464.57,1476.38 r295.28
  circle w10: c1464.96,1476.77 r177.17
  circle w10: c480.32,492.13 r295.28
  circle w10: c480.71,492.52 r177.17
  circle w10: c1464.57,492.13 r295.28
  circle w10: c1464.96,492.52 r177.17
  lines w10: 185.83,512.2 276.38,506.69 ; 185.83,1496.46 276.38,1490.94 ; 198.43,414.17 287.8,434.25 ; 198.43,1398.43 287.8,1418.5 ; 211.02,611.81 292.13,570.87 ; 211.02,1596.06 292.13,1555.12 ; 212.99,560.63 304.72,531.5 ; 212.99,1544.88 304.72,1515.75 ; 214.17,462.6 304.72,468.11 ; 214.17,1446.85 304.72,1452.36 ; 241.34,324.8 316.14,368.9 ; 241.34,1309.06 316.14,1353.15 ; 243.7,373.23 322.44,410.24 ; 243.7,1357.48 322.44,1394.49 ; 253.15,636.22 328.74,585.83 ; 253.15,1620.47 328.74,1570.08 ; 263.78,688.98 322.83,629.92 ; 263.78,1673.23 322.83,1614.17 ; 286.61,298.43 359.45,359.45 ; 286.61,1282.68 359.45,1343.7 ; 305.51,698.43 365.75,631.89 ; 305.51,1682.68 365.75,1616.14 ; 319.29,249.21 371.65,320.08 ; 319.29,1233.46 371.65,1304.33 ; 322.44,736.22 378.35,663.78 ; 322.44,1720.47 378.35,1648.03 ; 368.11,739.37 411.81,661.42 ; 368.11,1723.62 411.81,1645.67 ; 372.83,243.7 411.81,325.98 ; 372.83,1227.95 411.81,1310.24 ; 395.28,772.05 428.35,696.06 ; 395.28,1756.3 428.35,1680.32 ; 400.39,213.39 429.53,297.24 ; 400.39,1197.64 429.53,1281.5 ; 441.34,765.75 456.3,672.05 ; 441.34,1750 456.3,1656.3 ; 452.36,222.83 465.75,312.2 ; 452.36,1207.09 465.75,1296.46 ; 480.32,703.54 480.32,785.83 ; 480.32,1687.8 480.32,1770.08 ; 488.98,199.21 491.73,287.01 ; 488.98,1183.46 491.73,1271.26 ; 503.54,674.02 523.62,759.45 ; 503.54,1658.27 523.62,1743.7 ; 519.29,316.54 537.01,225.98 ; 519.29,1300.79 537.01,1210.24 ; 539.37,689.76 572.05,768.9 ; 539.37,1674.02 572.05,1753.15 ; 553.15,300 582.28,224.02 ; 553.15,1284.25 582.28,1208.27 ; 558.27,653.15 611.81,728.74 ; 558.27,1637.4 611.81,1712.99 ; 575.2,338.58 623.23,256.3 ; 575.2,1322.83 623.23,1240.55 ; 597.24,655.12 658.27,724.8 ; 597.24,1639.37 658.27,1709.06 ; 605.51,620.47 677.56,677.17 ; 605.51,1604.72 677.56,1661.42 ; 612.99,332.28 659.06,263.78 ; 612.99,1316.54 659.06,1248.03 ; 618.11,376.38 677.56,314.17 ; 618.11,1360.63 677.56,1298.43 ; 637.01,577.17 724.41,616.14 ; 637.01,1561.42 724.41,1600.39 ; 643.31,612.2 722.44,654.33 ; 643.31,1596.46 722.44,1638.58 ; 649.61,429.13 730.71,388.98 ; 649.61,1413.39 730.71,1373.23 ; 653.94,525.98 748.43,538.58 ; 653.94,1510.24 748.43,1522.83 ; 655.12,382.68 723.23,332.28 ; 655.12,1366.93 723.23,1316.54 ; 661.42,475.2 750.79,468.9 ; 661.42,1459.45 750.79,1453.15 ; 672.83,563.78 760.24,580.32 ; 672.83,1548.03 760.24,1564.57 ; 679.13,448.03 764.57,420.47 ; 679.13,1432.28 764.57,1404.72 ; 684.25,502.76 770.87,501.57 ; 684.25,1487.01 770.87,1485.83 ; 1170.08,512.2 1260.63,506.69 ; 1170.08,1496.46 1260.63,1490.94 ; 1182.68,414.17 1272.05,434.25 ; 1182.68,1398.43 1272.05,1418.5 ; 1195.28,611.81 1276.38,570.87 ; 1195.28,1596.06 1276.38,1555.12 ; 1197.24,560.63 1288.98,531.5 ; 1197.24,1544.88 1288.98,1515.75 ; 1198.43,462.6 1288.98,468.11 ; 1198.43,1446.85 1288.98,1452.36 ; 1225.59,324.8 1300.39,368.9 ; 1225.59,1309.06 1300.39,1353.15 ; 1227.95,373.23 1306.69,410.24 ; 1227.95,1357.48 1306.69,1394.49 ; 1237.4,636.22 1312.99,585.83 ; 1237.4,1620.47 1312.99,1570.08 ; 1248.03,688.98 1307.09,629.92 ; 1248.03,1673.23 1307.09,1614.17 ; 1270.87,298.43 1343.7,359.45 ; 1270.87,1282.68 1343.7,1343.7 ; 1289.76,698.43 1350,631.89 ; 1289.76,1682.68 1350,1616.14 ; 1303.54,249.21 1355.91,320.08 ; 1303.54,1233.46 1355.91,1304.33 ; 1306.69,736.22 1362.6,663.78 ; 1306.69,1720.47 1362.6,1648.03 ; 1352.36,739.37 1396.06,661.42 ; 1352.36,1723.62 1396.06,1645.67 ; 1357.09,243.7 1396.06,325.98 ; 1357.09,1227.95 1396.06,1310.24 ; 1379.53,772.05 1412.6,696.06 ; 1379.53,1756.3 1412.6,1680.32 ; 1384.65,213.39 1413.78,297.24 ; 1384.65,1197.64 1413.78,1281.5 ; 1425.59,765.75 1440.55,672.05 ; 1425.59,1750 1440.55,1656.3 ; 1436.61,222.83 1450,312.2 ; 1436.61,1207.09 1450,1296.46 ; 1464.57,703.54 1464.57,785.83 ; 1464.57,1687.8 1464.57,1770.08 ; 1473.23,199.21 1475.98,287.01 ; 1473.23,1183.46 1475.98,1271.26 ; 1487.8,674.02 1507.87,759.45 ; 1487.8,1658.27 1507.87,1743.7 ; 1503.54,316.54 1521.26,225.98 ; 1503.54,1300.79 1521.26,1210.24 ; 1523.62,689.76 1556.3,768.9 ; 1523.62,1674.02 1556.3,1753.15 ; 1537.4,300 1566.54,224.02 ; 1537.4,1284.25 1566.54,1208.27 ; 1542.52,653.15 1596.06,728.74 ; 1542.52,1637.4 1596.06,1712.99 ; 1559.45,338.58 1607.48,256.3 ; 1559.45,1322.83 1607.48,1240.55 ; 1581.5,655.12 1642.52,724.8 ; 1581.5,1639.37 1642.52,1709.06 ; 1589.76,620.47 1661.81,677.17 ; 1589.76,1604.72 1661.81,1661.42 ; 1597.24,332.28 1643.31,263.78 ; 1597.24,1316.54 1643.31,1248.03 ; 1602.36,376.38 1661.81,314.17 ; 1602.36,1360.63 1661.81,1298.43 ; 1621.26,577.17 1708.66,616.14 ; 1621.26,1561.42 1708.66,1600.39 ; 1627.56,612.2 1706.69,654.33 ; 1627.56,1596.46 1706.69,1638.58 ; 1633.86,429.13 1714.96,388.98 ; 1633.86,1413.39 1714.96,1373.23 ; 1638.19,525.98 1732.68,538.58 ; 1638.19,1510.24 1732.68,1522.83 ; 1639.37,382.68 1707.48,332.28 ; 1639.37,1366.93 1707.48,1316.54 ; 1645.67,475.2 1735.04,468.9 ; 1645.67,1459.45 1735.04,1453.15 ; 1657.09,563.78 1744.49,580.32 ; 1657.09,1548.03 1744.49,1564.57 ; 1663.39,448.03 1748.82,420.47 ; 1663.39,1432.28 1748.82,1404.72 ; 1668.5,502.76 1755.12,501.57 ; 1668.5,1487.01 1755.12,1485.83
  lines w45: 413,416 413,467 ; 413,1401 413,1452 ; 515,416 515,467 ; 515,1401 515,1452 ; 568,508 568,559 ; 568,1493 568,1544 ; 1398,416 1398,467 ; 1398,1401 1398,1452 ; 1500,416 1500,467 ; 1500,1401 1500,1452 ; 1553,508 1553,559 ; 1553,1493 1553,1544
Bottom Layer:
  lines w44: 464,512 464,563 ; 464,1497 464,1548 ; 1449,512 1449,563 ; 1449,1497 1449,1548
  lines w45: 413,416 413,467 ; 413,1401 413,1452 ; 515,416 515,467 ; 515,1401 515,1452 ; 568,508 568,559 ; 568,1493 568,1544 ; 1398,416 1398,467 ; 1398,1401 1398,1452 ; 1500,416 1500,467 ; 1500,1401 1500,1452 ; 1553,508 1553,559 ; 1553,1493 1553,1544
Top Overlay:
  lines w8: 0,0 0,1968.5 1968.5,1968.5 1968.5,0 0,0 ; 360.08,411.26 360.08,568.74 cw(c478.19,490) 360.08,411.26 ; 360.08,1396.26 360.08,1553.74 cw(c478.19,1475) 360.08,1396.26 ; 1345.08,411.26 1345.08,568.74 cw(c1463.19,490) 1345.08,411.26 ; 1345.08,1396.26 1345.08,1553.74 cw(c1463.19,1475) 1345.08,1396.26
  lines w44: 464,512 464,563 ; 464,1497 464,1548 ; 1449,512 1449,563 ; 1449,1497 1449,1548
  text "C3" at 419.88,1497.6 h62
  text "C4" at 1404.88,1497.6 h62
  text "C1" at 419.88,512.6 h62
  text "C2" at 1404.88,512.6 h62
Top Solder:
  drawing of 168 lines, arcs and shapes, not listed
Bottom Solder:
  lines w45: 413,416 413,467 ; 413,1401 413,1452 ; 464,512 464,563 ; 464,1497 464,1548 ; 515,416 515,467 ; 515,1401 515,1452 ; 568,508 568,559 ; 568,1493 568,1544 ; 1398,416 1398,467 ; 1398,1401 1398,1452 ; 1449,512 1449,563 ; 1449,1497 1449,1548 ; 1500,416 1500,467 ; 1500,1401 1500,1452 ; 1553,508 1553,559 ; 1553,1493 1553,1544
Mechanical 16:
  rectangle: 501.7,1464.3 527.7,1485.3
  rectangle: 452.3,1464.3 478.3,1485.3
  rectangle: 403,1464.3 429,1485.3
  rectangle: 551,1464.3 577,1485.3
  rectangle: 1486.7,1464.3 1512.7,1485.3
  rectangle: 1437.3,1464.3 1463.3,1485.3
  rectangle: 1388,1464.3 1414,1485.3
  rectangle: 1536,1464.3 1562,1485.3
  rectangle: 501.7,479.3 527.7,500.3
  rectangle: 452.3,479.3 478.3,500.3
  rectangle: 403,479.3 429,500.3
  rectangle: 551,479.3 577,500.3
  rectangle: 1486.7,479.3 1512.7,500.3
  rectangle: 1437.3,479.3 1463.3,500.3
  rectangle: 1388,479.3 1414,500.3
  rectangle: 1536,479.3 1562,500.3
  lines w5: -78.74,1476.38 2047.24,1476.38 ; -59.06,492.13 2106.3,492.13 ; 492.13,-39.37 492.13,1988.19 ; 1476.38,-19.69 1476.38,1988.19